# Altium footprint library Sensors.PcbLib: 17 footprints (part 1 of 2)
Each footprint in its own frame and in the unit in brackets; x right, y up, seen from the top. Pads: shape width x height; smd on the part's side, far side on the other; paste and mask are expansions set on the pad; w line width, h text height; cw(c..) or ccw(c..) is an arc to the next point about the centre after c.
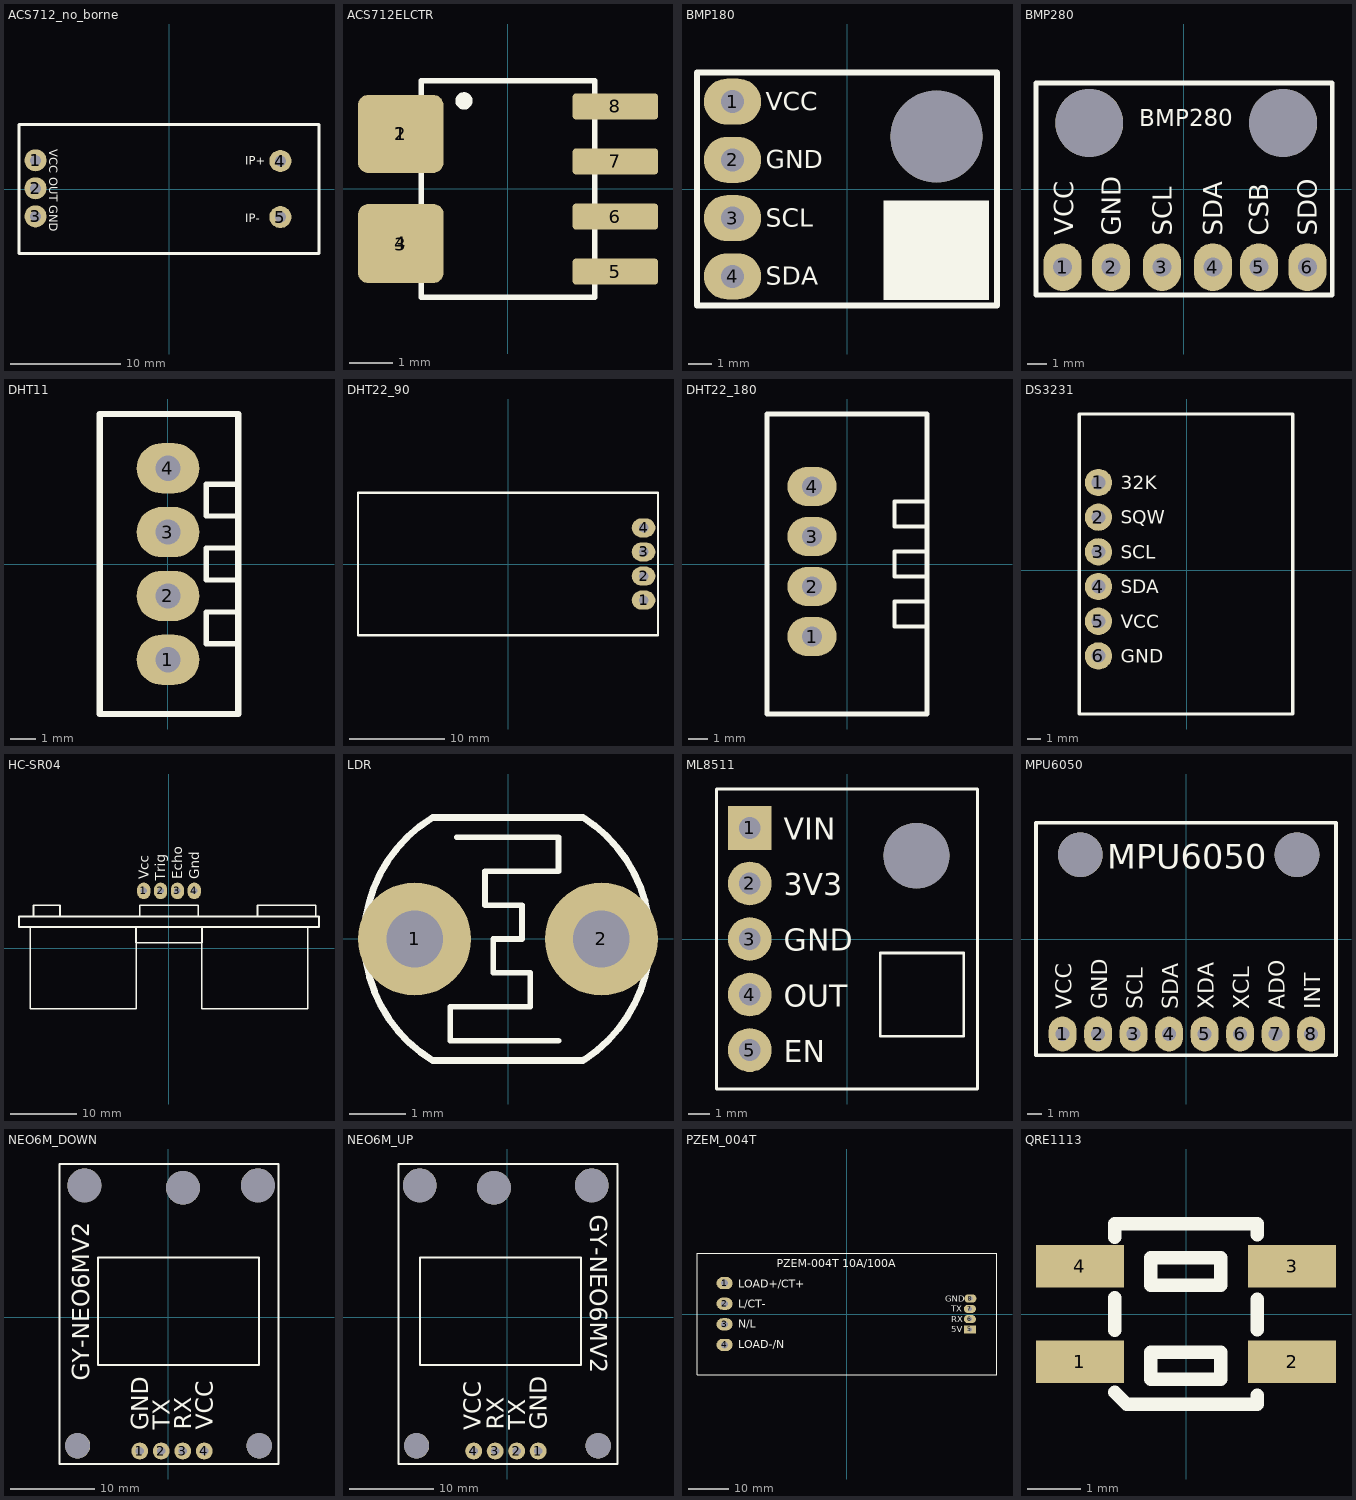
[diagram p0: the footprints below, top view; thin cyan lines are the x and y axes]

## ACS712_no_borne [mm]
pads (5):
  round 2 hole 1 paste-2539.97 mask+0.051: 1(-12.1,2.602) 2(-12.1,0.062) 3(-12.1,-2.478) 4(10.1,2.535) 5(10.1,-2.545)
Top Overlay:
  lines w0.254: -13.6,-5.85 -13.6,5.85 13.6,5.85 13.6,-5.85 -13.6,-5.85
  text "IP-" at 6.899,-3.023 h0.76
  text "IP+" at 6.899,2.183 h0.76
  text "GND" at -10.848,-1.462 h0.76
  text "VCC" at -10.848,3.618 h0.76
  text "OUT" at -10.848,1.078 h0.76
3D body "ACS712_NO_BORNE.SLDPRT": height 5.15, standoff -5.95, extent -13.6,-5.85 13.6,5.85

## ACS712ELCTR [mm]
pads (8):
  rrect25% 1.97x1.8 smd paste+0 mask+0.102: 1(-2.475,1.27) 2(-2.475,1.27) 3(-2.475,-1.27) 4(-2.47,-1.248)
  rrect25% 1.97x0.6 smd paste+0 mask+0.102: 5(2.475,-1.905) 6(2.475,-0.635) 7(2.475,0.635) 8(2.475,1.905)
Top Overlay:
  circle w0.2: c-1.016,2.032 r0.1
  lines w0.127: -2,-2.5 2,-2.5 2,2.5 -2,2.5 -2,-2.5
3D body "step_temp.STEP": height 1.75, standoff 0, extent -3,-2.45 3,2.45

## BMP180 [mm] "SENSOR ATMOSPHERIC PRESSURE/TEMPERATURE"
pads (5):
  oval 2.5x2 hole 1: 1(-4.992,3.81) 2(-4.992,1.27) 3(-4.992,-1.27) 4(-4.992,-3.81)
  round 4 hole 4 unplated: ""(3.898,2.286)
Top Overlay:
  region: 6.184,-4.826 1.612,-4.826 1.612,-0.508 6.184,-0.508
  lines w0.254: -6.54,-5.08 -6.54,5.08 6.54,5.08 6.54,-5.08 -6.54,-5.08
  text "SDA" at -3.543,-4.18 h0.8
  text "SCL" at -3.543,-1.64 h0.8
  text "GND" at -3.543,0.9 h0.8
  text "VCC" at -3.543,3.44 h0.8
3D body "BMP180.step": height 5.63, standoff -6.31, extent -6.209,-5.038 6.59,5.162

## BMP280 [mm] "SENSOR ATMOSPHERIC PRESSURE/TEMPERATURE/ALTITUDE"
pads (8):
  oval 2x2.5 hole 1: 1(-6.35,-4.096) 2(-3.81,-4.096) 3(-1.143,-4.096) 4(1.524,-4.096) 5(3.937,-4.096) 6(6.477,-4.096)
  round 3.556 hole 3.556 unplated: ""(-4.953,3.461) ""(5.207,3.461)
Top Overlay:
  lines w0.254: 7.747,-5.556 -7.747,-5.556 -7.747,5.556 0,5.556 7.747,5.556 ; 7.777,-5.556 7.777,5.556
  text "SDO" at 6.977,-2.445 h1
  text "CSB" at 4.437,-2.445 h1
  text "SDA" at 2.024,-2.445 h1
  text "SCL" at -0.643,-2.445 h1
  text "GND" at -3.31,-2.445 h1
  text "VCC" at -5.791,-2.432 h1
  text "BMP280" at -2.337,3.283 h0.89
3D body "BMP280.stp": height 6.07, standoff -6.62, extent -7.62,-5.595 7.62,5.405

## DHT11 [mm] "SENSOR HUMIDITY/TEMPERATURE"
pads (4):
  oval 2.5x2 hole 1: 1(0,-3.81) 2(0,-1.27) 3(0,1.27) 4(0,3.81)
Top Overlay:
  lines w0.203: 2.794,-3.175 1.524,-3.175 1.524,-1.905 2.794,-1.905 ; 2.794,-0.635 1.524,-0.635 1.524,0.635 2.794,0.635 ; 2.794,1.905 1.524,1.905 1.524,3.175 2.794,3.175
  lines w0.254: -2.714,-5.969 -2.714,5.969 2.794,5.969 2.794,-5.969 -2.714,-5.969
3D body "DHT11.SLDPRT": height 15.5, standoff -8, extent -2.706,-6 2.794,6

## DHT22_90 [mm]
pads (4):
  oval 2.5x2 hole 1: 1(14.287,-3.81) 2(14.287,-1.27) 3(14.287,1.27) 4(14.287,3.81)
Top Overlay:
  lines w0.254: -15.811,-7.493 -15.811,7.493 15.811,7.493 15.811,-7.493 -15.811,-7.493
3D body "DHT22_90.stp": height 7.73, standoff -2, extent -15.807,-7.55 14.541,7.55

## DHT22_180 [mm]
pads (4):
  oval 2.5x2 hole 1: 1(-1.778,-3.683) 2(-1.778,-1.143) 3(-1.778,1.397) 4(-1.778,3.937)
Top Overlay:
  lines w0.203: 4.008,-3.175 2.413,-3.175 2.413,-1.905 4.008,-1.905 ; 4.008,-0.635 2.413,-0.635 2.413,0.635 4.008,0.635 ; 4.008,1.905 2.413,1.905 2.413,3.175 4.008,3.175
  lines w0.254: -4.064,-7.62 -4.064,7.62 4.064,7.62 4.064,-7.62 -4.064,-7.62
3D body "DHT22_180.SLDPRT": height 25.27, standoff -7.68, extent -4.064,-7.735 4.086,7.735

## DS3231 [mm]
pads (6):
  round 2 hole 1 paste-2539.97 mask+0.051: 1(-6.477,6.413) 2(-6.477,3.873) 3(-6.477,1.333) 4(-6.477,-1.206) 5(-6.477,-3.746) 6(-6.477,-6.286)
Top Overlay:
  lines w0.254: -7.874,-10.541 -7.874,11.43 7.747,11.43 7.747,-10.541 -7.874,-10.541
  text "GND" at -4.842,-6.786 h1
  text "VCC" at -4.842,-4.246 h1
  text "SDA" at -4.842,-1.706 h1
  text "SCL" at -4.842,0.834 h1
  text "SQW" at -4.842,3.374 h1
  text "32K" at -4.842,5.914 h1
3D body "HW-84 v7.step": height 38.3, standoff -7.78, extent -6.731,-10.544 7.693,11.306

## HC-SR04 [mm] "ULTRASONIC SENSOR 400CM"
pads (4):
  oval 2x2.5 hole 1: 1(-3.81,8.636) 2(-1.27,8.636) 3(1.27,8.636) 4(3.81,8.636)
Top Overlay:
  lines w0.254: -22.65,3.186 -22.65,4.786 22.65,4.786 22.65,3.186 -22.65,3.186 ; -20.95,-9.164 -20.95,3.186 -4.95,3.186 -4.95,-9.164 -20.95,-9.164 ; -20.45,4.786 -20.45,6.486 -16.45,6.486 -16.45,4.786 -20.45,4.786 ; -5,0.786 -5,3.186 5,3.186 5,0.786 -5,0.786 ; -4.4,4.786 -4.4,6.486 4.4,6.486 4.4,4.786 -4.4,4.786 ; 4.95,-9.164 4.95,3.186 20.95,3.186 20.95,-9.164 4.95,-9.164 ; 13.35,4.786 13.35,6.486 22.15,6.486 22.15,4.786 13.35,4.786
  text "Gnd" at 4.56,10.414 h1.5
  text "Echo" at 2.02,10.414 h1.5
  text "Trig" at -0.577,10.165 h1.5
  text "Vcc" at -3.06,10.414 h1.5
3D body "HCSR04.STEP": height 20, standoff -6.6, extent -22.509,-9.022 22.491,8.978

## LDR [mm] "LIGHT DEPENDEND RESISTOR/PHOTORESITOR 3mm"
pads (2):
  round 2 hole 1: 1(-1.651,0) 2(1.651,0)
Top Overlay:
  lines w0.1: -0.907,1.801 0.892,1.801 0.892,1.199 -0.406,1.199 -0.406,0.599 0.246,0.599 0.246,0 -0.262,0 -0.262,-0.6 0.391,-0.6 0.391,-1.199 -1.024,-1.199 -1.024,-1.801 0.892,-1.801
  lines w0.12: -1.353,2.134 ccw(c-0.028,0) -1.328,-2.15 ; -1.328,-2.149 1.323,-2.149 ; -1.328,2.149 1.323,2.149 ; 1.322,2.15 cw(c-0.028,0) 1.35,-2.132
3D body "ldr.STEP": height 6.08, standoff -25.26, extent -2.515,-2.201 2.515,2.109

## ML8511 [mm]
pads (6):
  rect 2x2 hole 1 paste-2539.97 mask+0.051: 1(-4.445,5.08)
  round 2 hole 1 paste-2539.97 mask+0.051: 2(-4.445,2.54) 3(-4.445,0) 4(-4.445,-2.54) 5(-4.445,-5.08)
  round 3 hole 3 unplated paste-2539.97: ""(3.175,3.81)
Top Overlay:
  lines w0.127: -5.969,-6.858 -5.969,6.858 5.969,6.858 5.969,-6.858 -5.969,-6.858 ; 1.524,-4.445 1.524,-0.635 5.334,-0.635 5.334,-4.445 1.524,-4.445
  text "VIN" at -2.896,4.534 h1
  text "GND" at -2.896,-0.546 h1
  text "OUT" at -2.896,-3.086 h1
  text "EN" at -2.896,-5.626 h1
  text "3V3" at -2.896,1.994 h1
3D body "ML8511.SLDPRT": height 5.87, standoff -6.24, extent -6,-6.842 6,6.858

## MPU6050 [mm] "IMU ACCEL/GYRO 3-AXIS I2C"
pads (10):
  oval 2x2.5 hole 1: 1(-8.826,-6.794) 2(-6.286,-6.794) 3(-3.746,-6.794) 4(-1.206,-6.794) 5(1.333,-6.794) 6(3.873,-6.794) 7(6.413,-6.794) 8(8.954,-6.794)
  round 3.2 hole 3.2 unplated: ""(-7.556,6.033) ""(7.938,6.033)
Top Overlay:
  lines w0.254: -10.731,-8.318 10.731,-8.318 10.731,8.318 -10.731,8.318 -10.731,-8.318
  text "INT" at 9.588,-5.016 h1.14
  text "VCC" at -8.191,-5.016 h1.14
  text "GND" at -5.651,-5.016 h1.14
  text "SCL" at -3.111,-5.016 h1.14
  text "SDA" at -0.572,-5.016 h1.14
  text "XDA" at 1.968,-5.016 h1.14
  text "XCL" at 4.508,-5.016 h1.14
  text "ADO" at 7.048,-5.016 h1.14
  text "MPU6050" at -5.651,5.017 h1.75
3D body "GY521.STEP": height 5.69, standoff -6.06, extent -10.732,-8.186 10.768,8.314

## NEO6M_DOWN [mm]
pads (9):
  round 2 hole 1 paste-2539.97 mask+0.051: 1(-3.383,-15.806) 2(-0.843,-15.806) 3(1.697,-15.806) 4(4.237,-15.806)
  round 3 hole 3 unplated paste-2539.97: ""(-10.731,-15.182) ""(10.731,-15.182)
  round 4 hole 4 unplated paste-2539.97: ""(-9.923,15.581) ""(1.727,15.298) ""(10.567,15.581)
Top Overlay:
  lines w0.254: -12.873,-17.341 -12.873,18.103 13.017,18.103 13.018,-17.341 -12.873,-17.341 ; -8.333,-5.646 -8.333,7.054 10.717,7.054 10.717,-5.646 -8.333,-5.646
  text "TX" at 0.173,-13.266 h2.03
  text "VCC" at 5.253,-13.266 h2.03
  text "RX" at 2.713,-13.266 h2.03
  text "GY-NEO6MV2" at -9.364,-7.503 h2.03
  text "GND" at -2.367,-13.378 h2.03
3D body "NEO6M_DOWN.STEP": height 5.92, standoff -6.25, extent -12.974,-17.439 13.106,18.161

## NEO6M_UP [mm]
pads (9):
  round 2 hole 1 paste-2539.97 mask+0.051: 1(3.637,-15.806) 2(1.097,-15.806) 3(-1.443,-15.806) 4(-3.983,-15.806)
  round 3 hole 3 unplated paste-2539.97: ""(-10.731,-15.182) ""(10.731,-15.182)
  round 4 hole 4 unplated paste-2539.97: ""(-10.348,15.581) ""(-1.587,15.298) ""(9.972,15.581)
Top Overlay:
  lines w0.254: -12.873,-17.341 13.018,-17.341 13.017,18.103 -12.873,18.103 -12.873,-17.341 ; -10.333,-5.646 8.717,-5.646 8.717,7.054 -10.333,7.054 -10.333,-5.646
  text "VCC" at -3.129,-13.378 h2.03
  text "GY-NEO6MV2" at 9.802,12.134 h2.03
  text "TX" at 2.113,-13.266 h2.03
  text "GND" at 4.653,-13.266 h2.03
  text "RX" at -0.427,-13.266 h2.03
3D body "NEO6M_UP.STEP": height 12.42, standoff -6.56, extent -12.977,-17.468 13.103,18.132

## PZEM_004T [mm]
pads (8):
  oval 4x3 hole 1.7 paste-2539.97 mask+0.051: 1(-30.15,7.62) 2(-30.15,2.54) 3(-30.15,-2.54) 4(-30.15,-7.62)
  rect 3x2 hole 1 paste-2539.97 mask+0.051: 5(30.4,-3.81)
  oval 3x2 hole 1 paste-2539.97 mask+0.051: 6(30.4,-1.27) 7(30.4,1.27) 8(30.5,3.824)
Top Overlay:
  lines w0.254: -36.957,-15 37.084,-15 37.084,15 -36.957,15 -36.957,-15
  text "PZEM-004T 10A/100A" at -17.322,11.598 h2
  text "GND" at 24.315,3.07 h1.52
  text "TX" at 25.839,0.53 h1.52
  text "RX" at 25.839,-2.01 h1.52
  text "5V" at 25.839,-4.55 h1.52
  text "LOAD+/CT+" at -26.72,6.518 h2
  text "N/L" at -26.72,-3.388 h2
  text "LOAD-/N" at -26.72,-8.468 h2
  text "L/CT-" at -26.72,1.565 h2
3D body "PZEM-004T.SLDPRT": height 11.14, standoff 0.1, extent -37.096,-15 37.104,15

## QRE1113 [mm] "REFLECTIVE OPTICAL SENSOR SMD"
pads (4):
  rect 1.66x0.8 smd: 1(-2,-0.9) 2(2,-0.9) 3(2,0.9) 4(-2,0.9)
Top Overlay:
  lines w0.254: -1.346,-1.473 -1.118,-1.702 -0.864,-1.702 1.346,-1.702 1.346,-1.531 ; -1.346,-0.305 -1.346,0.305 ; -1.346,1.448 -1.346,1.702 1.346,1.702 1.346,1.499 ; 1.346,-0.294 1.346,0.279 ; -0.666,-1.233 0.655,-1.233 0.655,-0.725 -0.666,-0.725 -0.666,-1.233 ; -0.666,0.545 0.655,0.545 0.655,1.065 -0.666,1.065 -0.666,0.545
3D body "QRE1113.step": height 1.85, standoff 0, extent -2.355,-1.767 2.445,1.833